# Altium footprint library Chips.PcbLib: 116 footprints (part 3 of 8)
Each footprint in its own frame and in the unit in brackets; x right, y up, seen from the top. Pads: shape width x height; smd on the part's side, far side on the other; paste and mask are expansions set on the pad; w line width, h text height; cw(c..) or ccw(c..) is an arc to the next point about the centre after c.
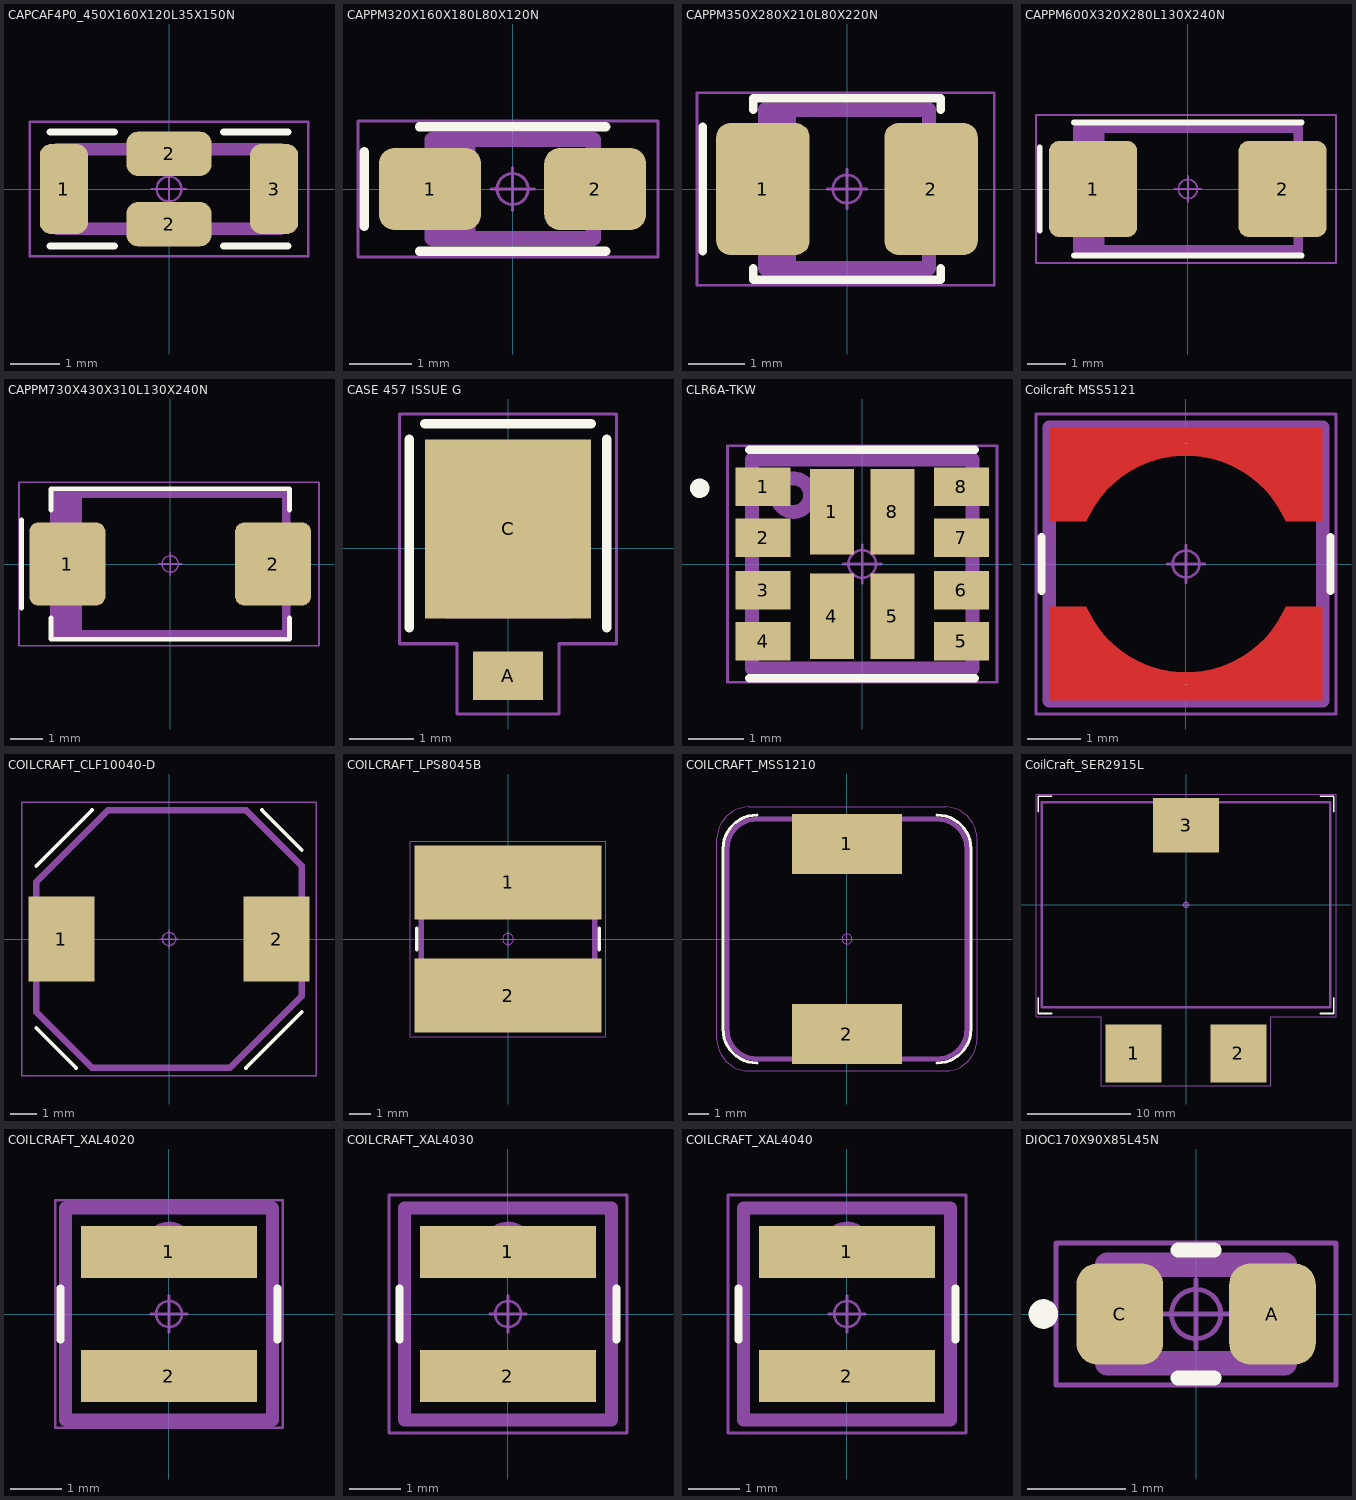
[diagram p2: the footprints below, top view; thin cyan lines are the x and y axes]

## CAPCAF4P0_450X160X120L35X150N [mm] "Chip Array, 4 Side Flat, 0.00 mm pitch; rect., 1 pin X 1 pin, 4.50 mm L X 1.60 mm W X 1.20 mm H body"
height 1.2
pads (4):
  rrect45% 0.97x1.81 smd: 1(-2.12,0) 3(2.12,0)
  rrect49% 1.71x0.89 smd: 2(0,-0.71) 2(0,0.71)
Top Overlay:
  lines w0.15: -2.4,-1.15 -1.1,-1.15 ; -2.4,1.15 -1.1,1.15 ; 1.1,-1.15 2.4,-1.15 ; 1.1,1.15 2.4,1.15
Top Assembly:
  lines w0.25: -2.25,-0.8 -2.25,0.8 2.25,0.8 2.25,-0.8 -2.25,-0.8
  text ".Designator" at -2,-0.5 h1.5
Top Courtyard:
  circle w0.05: c0,0 r0.25
  lines w0.05: -0.35,0 0.35,0 ; 0,-0.35 0,0.35 ; -2.81,-1.36 -2.81,1.36 2.81,1.36 2.81,-1.36 -2.81,-1.36
3D body "3-terminal_CAPC1806.STEP": height 1, standoff 0, extent -2.25,-0.8 2.25,0.8

## CAPPM320X160X180L80X120N [mm] "Capacitor, Polarized, Molded Body; 2.60 mm L X 1.60 mm W X 1.80 mm H body"
height 1.8
pads (2):
  rrect38% 1.65x1.33 smd: 1(-1.335,0) 2(1.335,0)
Top Overlay:
  lines w0.15: -2.4,-0.6 -2.4,0.6 ; -1.505,-1.005 1.505,-1.005 ; -1.505,1.005 1.505,1.005
Top Assembly:
  rectangle: -1.3,-0.8 -0.6,0.8
  lines w0.25: -1.3,-0.8 -1.3,0.8 1.3,0.8 1.3,-0.8 -1.3,-0.8
  text ".Designator" at -2.4,1.4 h1.5
Top Courtyard:
  circle w0.05: c0,0 r0.25
  lines w0.05: -0.35,0 0.35,0 ; 0,-0.35 0,0.35 ; -2.5,-1.1 2.35,-1.1 2.35,1.1 -2.5,1.1 -2.5,-1.1
3D body "CAPPM320X160X180L80X120.STEP": height 1.8, standoff 0, extent -1.6,-0.8 1.6,0.8

## CAPPM350X280X210L80X220N [mm] "Capacitor, Polarized, Molded Body; 2.90 mm L X 2.80 mm W X 2.10 mm H body"
height 2.1
pads (2):
  rrect30% 1.65x2.33 smd: 1(-1.485,0) 2(1.485,0)
Top Overlay:
  lines w0.15: -2.55,-1.1 -2.55,1.1 ; -1.655,-1.4 -1.655,-1.605 1.655,-1.605 1.655,-1.4 ; -1.655,1.4 -1.655,1.605 1.655,1.605 1.655,1.4
Top Assembly:
  rectangle: -1.5,-1.4 -0.9,1.4
  lines w0.25: -1.45,-1.4 -1.45,1.4 1.45,1.4 1.45,-1.4 -1.45,-1.4
  text ".Designator" at -2.3,2 h1.5
Top Courtyard:
  circle w0.05: c0,0 r0.25
  lines w0.05: -0.35,0 0.35,0 ; 0,-0.35 0,0.35 ; -2.65,-1.7 2.6,-1.7 2.6,1.7 -2.65,1.7 -2.65,-1.7
3D body "CAPPM350X280X210L80X220.STEP": height 2.1, standoff 0, extent -1.75,-1.4 1.75,1.4

## CAPPM600X320X280L130X240N [mm] "Capacitor, Polarized, Molded Body; 5.80 mm L X 3.20 mm W X 2.80 mm H body"
height 2.8
pads (2):
  rrect22% 2.32x2.53 smd: 1(-2.495,0) 2(2.495,0)
Top Overlay:
  lines w0.15: -3.9,-1.1 -3.9,1.1 ; -3,-1.75 3,-1.75 ; -3,1.75 3,1.75
Top Assembly:
  rectangle: -2.9,-1.6 -2.2,1.6
  lines w0.25: -2.9,-1.6 -2.9,1.6 2.9,1.6 2.9,-1.6 -2.9,-1.6
  text ".Designator" at 0,0 h1.5
Top Courtyard:
  circle w0.05: c0,0 r0.25
  lines w0.05: -0.35,0 0.35,0 ; 0,-0.35 0,0.35 ; -4,-1.95 -4,1.95 3.9,1.95 3.9,-1.95 -4,-1.95
3D body "CAPPM600X320X280L130X240.STEP": height 2.8, standoff 0, extent -3,-1.6 3,1.6

## CAPPM730X430X310L130X240N [mm] "Capacitor, Polarized, Molded Body; 7.10 mm L X 4.30 mm W X 3.10 mm H body"
height 3.1
pads (2):
  rrect22% 2.32x2.53 smd: 1(-3.145,0) 2(3.145,0)
Top Overlay:
  lines w0.15: -4.55,-1.35 -4.55,1.35 ; -3.65,-1.65 -3.65,-2.3 3.65,-2.3 3.65,-1.65 ; -3.65,1.65 -3.65,2.3 3.65,2.3 3.65,1.65
Top Assembly:
  rectangle: -3.55,-2.15 -2.7,2.15
  lines w0.25: -3.55,-2.15 -3.55,2.15 3.55,2.15 3.55,-2.15 -3.55,-2.15
  text ".Designator" at 0,0 h1.5
Top Courtyard:
  circle w0.05: c0,0 r0.25
  lines w0.05: -0.35,0 0.35,0 ; 0,-0.35 0,0.35 ; -4.625,-2.5 -4.625,2.5 4.55,2.5 4.55,-2.5 -4.625,-2.5
3D body "CAPPM730X430X310L130X240.STEP": height 3.1, standoff 0, extent -3.65,-2.15 3.65,2.15

## CASE 457 ISSUE G [mm] "Onsemi CASE 457 ISSUE G"
height 1.15
pads (2):
  rect 1.1x0.76 smd: A(0,-2)
  rect 2.6x2.8 smd: C(0,0.3)
Top Overlay:
  lines w0.15: -1.55,-1.25 -1.55,1.7 ; -1.3,1.95 1.3,1.95 ; 1.55,-1.25 1.55,1.7
Top Assembly:
  lines w0.25: -0.95,0.55 0.95,0.55 ; -0.948,-0.981 0.948,-0.981 0.948,0.98 -0.948,0.98 -0.948,-0.981
  text ".Designator" at -0.65,-0.668 h1.5
Top Courtyard:
  circle w0.05: c0,0 r0.25
  lines w0.05: -0.35,0 0.35,0 ; 0,-0.35 0,0.35 ; -1.7,-1.5 -1.7,2.1 1.7,2.1 1.7,-1.5 0.8,-1.5 0.8,-2.6 -0.8,-2.6 -0.8,-1.5 -1.7,-1.5
3D body "CASE 457 ISSUE G.STEP": height 1, standoff 0, extent -0.95,-2.332 0.95,1.482

## CLR6A-TKW [mm] "Cree CLR6A-TKW 4 in 1 SMD Len 4.00x4.00 mm"
height 0.8
pads (12):
  rect 1x0.7 smd: 1(-1.8,1.4) 2(-1.8,0.475) 3(-1.8,-0.475) 4(-1.8,-1.4) 5(1.8,-1.4) 6(1.8,-0.475) 7(1.8,0.475) 8(1.8,1.4)
  rect 0.8x1.55 smd: 1(-0.55,0.95) 4(-0.55,-0.95) 5(0.55,-0.95) 8(0.55,0.95)
Top Overlay:
  circle w0.25: c-2.95,1.375 r0.05
  lines w0.15: -2.05,-2.075 2.05,-2.075 ; -2.05,2.075 2.05,2.075
Top Assembly:
  circle w0.25: c-1.25,1.25 r0.304
  lines w0.254: -2,-1.9 -2,1.9 2,1.9 2,-1.9 -2,-1.9
  text ".Designator" at -3.378,-0.339 h1.5
Top Courtyard:
  circle w0.05: c0,0 r0.25
  lines w0.05: -0.35,0 0.35,0 ; 0,-0.35 0,0.35 ; -2.448,-2.148 2.448,-2.148 2.448,2.148 -2.448,2.148 -2.448,-2.148
3D body "CLR6A-TKW.STEP": height 0.8, standoff 0, extent -2.05,-1.9 2.05,1.9

## Coilcraft MSS5121 [mil] "MSS5121 Series Shielded Surface Mount Power Inductors, 5.1x5.1x2.2"
height 86.61
pads (2):
  round 1 smd: 1(0,88.58) 2(0,-88.58)
Top Layer:
  region: 100,-31.5 73.24,-31.5 71.63,-35.01 67.9,-41.79 63.53,-48.17 58.56,-54.1 53.04,-59.52 47.02,-64.38 40.56,-68.63 33.72,-72.24 26.56,-75.17 19.15,-77.39 11.57,-78.88 3.87,-79.63 -3.87,-79.63 -11.57,-78.88 -19.15,-77.39 -26.56,-75.17 -33.72,-72.24 -40.56,-68.63 -47.02,-64.38 -53.04,-59.52 -58.56,-54.1 -63.53,-48.17 -67.9,-41.79 -71.63,-35.01 -73.24,-31.5 -100,-31.5 -100,-100 100,-100
  region: -100,31.5 -73.24,31.5 -71.63,35.01 -67.9,41.79 -63.53,48.17 -58.56,54.1 -53.04,59.52 -47.02,64.38 -40.56,68.63 -33.72,72.24 -26.56,75.17 -19.15,77.39 -11.57,78.88 -3.87,79.63 3.87,79.63 11.57,78.88 19.15,77.39 26.56,75.17 33.72,72.24 40.56,68.63 47.02,64.38 53.04,59.52 58.56,54.1 63.53,48.17 67.9,41.79 71.63,35.01 73.24,31.5 100,31.5 100,100 -100,100
Top Overlay:
  lines w5.91: -106.3,-19.68 -106.3,19.68 ; 106.3,-19.68 106.3,19.68
Top Assembly:
  lines w9.84: -100.39,-100.39 100.39,-100.39 100.39,100.39 -100.39,100.39 -100.39,-100.39
  text ".Designator" at -133.01,-13.35 h59.06
Top Courtyard:
  circle w1.97: c0,0 r9.84
  lines w1.97: -13.78,0 13.78,0 ; 0,-13.78 0,13.78 ; -110.24,-110.24 110.24,-110.24 110.24,110.24 -110.24,110.24 -110.24,-110.24
3D body "Coilcraft-MSS5121.STEP": height 87.11, standoff 0.5, extent -106.24,-106.23 106.24,106.23

## COILCRAFT_CLF10040-D [mm] "Coilcraft 10x9.7x3.8 shileded inductor"
height 4.1
pads (2):
  rect 2.5x3.2 smd: 1(-4.05,0) 2(4.05,0)
Top Overlay:
  lines w0.15: -5,-3.35 -3.5,-4.85 ; -5,2.75 -2.9,4.85 ; 2.9,-4.85 5,-2.75 ; 3.5,4.85 5,3.35
Top Assembly:
  lines w0.25: -5,-2.75 -5,2.149 -2.299,4.85 2.9,4.85 5,2.75 5,-2.149 2.299,-4.85 -2.9,-4.85 -5,-2.75
  text ".Designator" at -3.378,-0.339 h1.5
Top Courtyard:
  circle w0.05: c0,0 r0.25
  lines w0.05: -0.35,0 0.35,0 ; 0,-0.35 0,0.35 ; -5.548,-5.148 5.548,-5.148 5.548,5.148 -5.548,5.148 -5.548,-5.148
3D body "clf10040_Colors.STEP": height 3.8, standoff 0, extent -5,-4.85 5,4.85

## COILCRAFT_LPS8045B [mm] "Coilcraft LPS8045B"
height 4.5
pads (2):
  rect 8.6x3.4 smd: 1(0,2.6) 2(0,-2.6)
Top Overlay:
  lines w0.15: -4.2,-0.5 -4.2,0.5 ; 4.2,-0.5 4.2,0.5
Top Assembly:
  circle w0.25: c-2.5,2.5 r0.5
  lines w0.25: -4,-3 -4,3 -3,4 3,4 4,3 4,-3 3,-4 -3,-4 -4,-3
  text ".Designator" at -3.3,-0.4 h1.5
Top Courtyard:
  circle w0.05: c0,0 r0.25
  lines w0.05: -0.35,0 0.35,0 ; 0,-0.35 0,0.35 ; -4.5,-4.5 -4.5,4.5 4.5,4.5 4.5,-4.5 -4.5,-4.5
3D body "LPS8045B.STEP": height 4.5, standoff 0, extent -4,-4 4,4

## COILCRAFT_MSS1210 [mm] "Coilcraft Shielded Power Inductors, 12.3x12.3x10"
height 10
pads (2):
  rect 5.5x3 smd: 1(0,4.75) 2(0,-4.75)
Top Overlay:
  lines w0.15: -4.5,-6.2 cw(c-4.5,-4.5) -6.2,-4.5 -6.2,4.5 cw(c-4.5,4.5) -4.5,6.2 ; 4.5,-6.2 ccw(c4.5,-4.5) 6.2,-4.5 6.2,4.5 ccw(c4.5,4.5) 4.5,6.2
Top Assembly:
  lines w0.25: -6,-4.5 ccw(c-4.5,-4.5) -4.5,-6 4.5,-6 ccw(c4.5,-4.5) 6,-4.5 6,4.5 ccw(c4.5,4.5) 4.5,6 -4.5,6 ccw(c-4.5,4.5) -6,4.5 -6,-4.5
  text ".Designator" at -3.378,-0.339 h1.5
Top Courtyard:
  circle w0.05: c0,0 r0.25
  lines w0.05: -0.35,0 0.35,0 ; 0,-0.35 0,0.35 ; -6.5,-5 ccw(c-4.9,-5) -4.9,-6.6 4.9,-6.6 ccw(c4.9,-5) 6.5,-5 6.5,5 ccw(c4.9,5) 4.9,6.6 -4.9,6.6 ccw(c-4.9,5) -6.5,5 -6.5,-5
3D body "Coilcraft-MSS1210.step": height 10.2, standoff 0, extent -6.15,-6.15 6.15,6.15

## CoilCraft_SER2915L [mm] "CoilCraft Power Inductor"
height 15.36
pads (3):
  rect 5.4x5.6 smd paste-0.55 mask-0.55: 1(-5.075,-14.35) 2(5.075,-14.35)
  rect 6.4x5.3 smd paste-0.55 mask-0.55: 3(0,7.7)
Top Overlay:
  lines w0.15: -14.3,-9 -14.3,-10.5 -13,-10.5 ; -14.3,9 -14.3,10.5 -13,10.5 ; 13,-10.5 14.3,-10.5 14.3,-9 ; 13,10.5 14.3,10.5 14.3,9
Top Assembly:
  lines w0.25: -13.95,-9.9 -13.95,9.9 13.95,9.9 13.95,-9.9 -13.95,-9.9
  text ".Designator" at -4,-0.3 h2
Top Courtyard:
  circle w0.05: c0,0 r0.25
  lines w0.05: -0.35,0 0.35,0 ; 0,-0.35 0,0.35 ; -14.5,-10.8 -8.2,-10.8 -8.2,-17.5 8.2,-17.5 8.2,-10.8 14.5,-10.8 14.5,10.7 -14.5,10.7 -14.5,-10.8
3D body "Coilcraft-SER2915L.step": height 15.3, standoff -0.06, extent -13.951,-15.901 13.951,11.14

## COILCRAFT_XAL4020 [mm] "Coilcraft Power Inductor, 4x4x2"
height 2.1
pads (2):
  rect 3.4x1 smd: 1(0,1.2) 2(0,-1.2)
Top Overlay:
  lines w0.15: -2.1,-0.5 -2.1,0.5 ; 2.1,-0.5 2.1,0.5
Top Assembly:
  circle w0.25: c0,1.3 r0.361
  lines w0.25: -1.998,-2.048 1.998,-2.048 1.998,2.048 -1.998,2.048 -1.998,-2.048
  text ".Designator" at -3.378,-0.339 h1.5
Top Courtyard:
  circle w0.05: c0,0 r0.25
  lines w0.05: -0.35,0 0.35,0 ; 0,-0.35 0,0.35 ; -2.198,-2.198 2.198,-2.198 2.198,2.198 -2.198,2.198 -2.198,-2.198
3D body "Coilcraft-XAL4020.step": height 2.11, standoff 0.01, extent -2.15,-2.15 2.15,2.15

## COILCRAFT_XAL4030 [mm] "Coilcraft Power Inductor, 4x4x3"
height 3.1
pads (2):
  rect 3.4x1 smd: 1(0,1.2) 2(0,-1.2)
Top Overlay:
  lines w0.15: -2.1,-0.5 -2.1,0.5 ; 2.1,-0.5 2.1,0.5
Top Assembly:
  circle w0.25: c0,1.3 r0.361
  lines w0.25: -2,-2.05 2,-2.05 2,2.05 -2,2.05 -2,-2.05
  text ".Designator" at -3.378,-0.339 h1.5
Top Courtyard:
  circle w0.05: c0,0 r0.25
  lines w0.05: -0.35,0 0.35,0 ; 0,-0.35 0,0.35 ; -2.3,-2.3 2.3,-2.3 2.3,2.3 -2.3,2.3 -2.3,-2.3
3D body "Coilcraft-XAL4030.step": height 3.11, standoff 0.01, extent -2.15,-2.15 2.15,2.15

## COILCRAFT_XAL4040 [mm] "Coilcraft Power Inductor, 4x4x4"
height 4.1
pads (2):
  rect 3.4x1 smd: 1(0,1.2) 2(0,-1.2)
Top Overlay:
  lines w0.15: -2.1,-0.5 -2.1,0.5 ; 2.1,-0.5 2.1,0.5
Top Assembly:
  circle w0.25: c0,1.3 r0.361
  lines w0.25: -2,-2.05 -2,2.05 2,2.05 2,-2.05 -2,-2.05
  text ".Designator" at -3.378,-0.339 h1.5
Top Courtyard:
  circle w0.05: c0,0 r0.25
  lines w0.05: -0.35,0 0.35,0 ; 0,-0.35 0,0.35 ; -2.3,-2.3 -2.3,2.3 2.3,2.3 2.3,-2.3 -2.3,-2.3
3D body "Coilcraft-XAL4040.step": height 4.11, standoff 0.01, extent -2.15,-2.15 2.15,2.15

## DIOC170X90X85L45N [mm] "Diode, Chip; 1.70 mm L X 0.90 mm W X 0.85 mm H body"
height 0.85
pads (2):
  rrect50% 0.88x1.03 smd: A(0.775,0) C(-0.775,0)
Top Overlay:
  circle w0.15: c-1.55,0 r0.075
  lines w0.15: -0.185,-0.65 0.185,-0.65 ; -0.185,0.65 0.185,0.65
Top Assembly:
  rectangle: -0.9,-0.5 -0.5,0.5
  lines w0.25: -0.9,-0.5 0.9,-0.5 0.9,0.5 -0.9,0.5 -0.9,-0.5
  text ".Designator" at -2.6,1 h1.5
Top Courtyard:
  circle w0.05: c0,0 r0.25
  lines w0.05: -0.35,0 0.35,0 ; 0,-0.35 0,0.35 ; -1.42,-0.72 1.42,-0.72 1.42,0.72 -1.42,0.72 -1.42,-0.72
3D body "DIOC170X90X85L45.STEP": height 0.85, standoff 0, extent -0.85,-0.45 0.85,0.45